# EAGLE library part XRJ45 (library connectors)
RJ-45 connector FCC68 standard, 8 pins
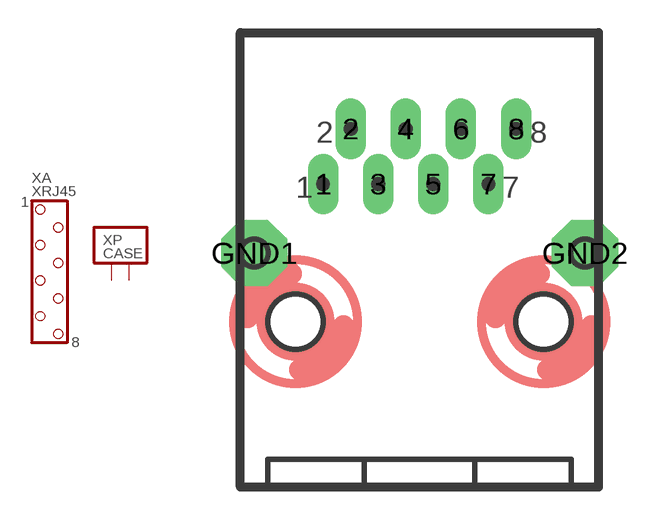
[diagram p9: symbol with the pads of XFCC68_8; footprint XFCC68_8]

Designator prefix X; gates A=XA08 P=CRJ45

## XRJ45  [XFCC68_8]
1  A:1
2  A:2
3  A:3
4  A:4
5  A:5
6  A:6
7  A:7
8  A:8
GND1  P:CASE
GND2  P:CASE

## Footprint XFCC68_8 (pad centres in mm)
RJ-45 connector, horizontal mount FCC68 standard, 8 pins
drill 0.889 pad 1.27 long: 1 0,0; 2 1.27,2.54; 3 2.54,0; 4 3.81,2.54; 5 5.08,0; 6 6.35,2.54; 7 7.62,0; 8 8.89,2.54
drill 1.651 pad 3.048 octagon: GND1 -3.175,-3.175; GND2 12.065,-3.175
hole 2.692 at -1.27,-6.35
hole 2.692 at 10.16,-6.35